# Altium schematic symbol library TR3W108M6R3C0050.SchLib: 1 symbol
Pins are listed as number, name and electrical type; pins without a type are passive.

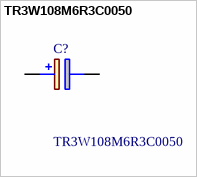
[diagram p0: symbol TR3W108M6R3C0050]

## TR3W108M6R3C0050
designator C?
Solid Tantalum Surface Mount Chip Capacitors TANTAMOUNT(TM), Molded Case, Low ESR; Manufacturer_Name: Vishay; Geometry.Height: 5.8mm; Mouser Part Number: 74-TR3W108M6R3C0050; Mouser Price/Stock: https://www.mouser.co.uk/ProductDetail/Vishay-Sprague/TR3W108M6R3C0050?qs=l4Gc20tDgJLTL7IlJqIckA%3D%3D; Manufacturer_Part_Number: TR3W108M6R3C0050; Datasheet Link: http://www.vishay.com/doc?40080
footprint CAPPM7360X580N
pins: 1 +, 2 -